# EAGLE library part EM-18 (library EM-18)
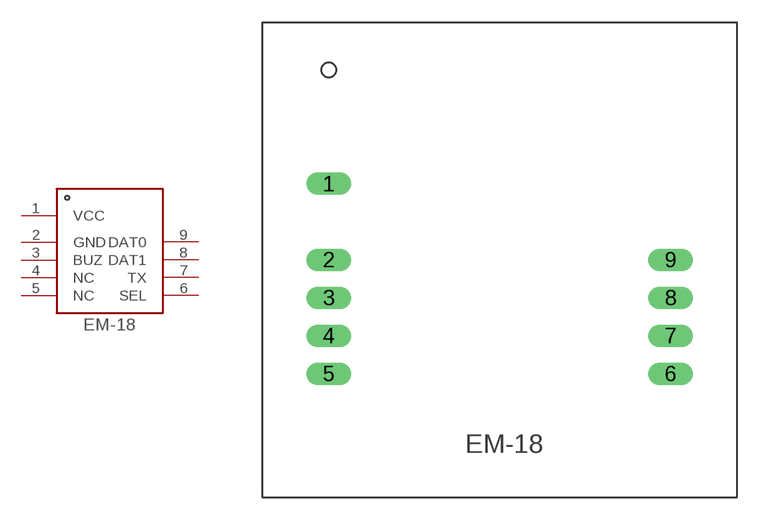
[diagram p0: symbol with the pads of EM-18; footprint EM-18]

Designator prefix -

## EM-18  [EM-18]
1  VCC
2  GND
3  BUZ
4  NC
5  NC
6  SEL
7  TX
8  DAT1
9  DAT0

## Footprint EM-18 (pad centres in mm)
drill 1 long: 1 -11.43,0; 2 -11.43,-5.08; 3 -11.43,-7.62; 4 -11.43,-10.16; 5 -11.43,-12.7; 6 11.43,-12.7; 7 11.43,-10.16; 8 11.43,-7.62; 9 11.43,-5.08